# Altium footprint library International Rectifier Footprints.PcbLib: 101 footprints (part 5 of 7)
Each footprint in its own frame and in the unit in brackets; x right, y up, seen from the top. Pads: shape width x height; smd on the part's side, far side on the other; paste and mask are expansions set on the pad; w line width, h text height; cw(c..) or ccw(c..) is an arc to the next point about the centre after c.
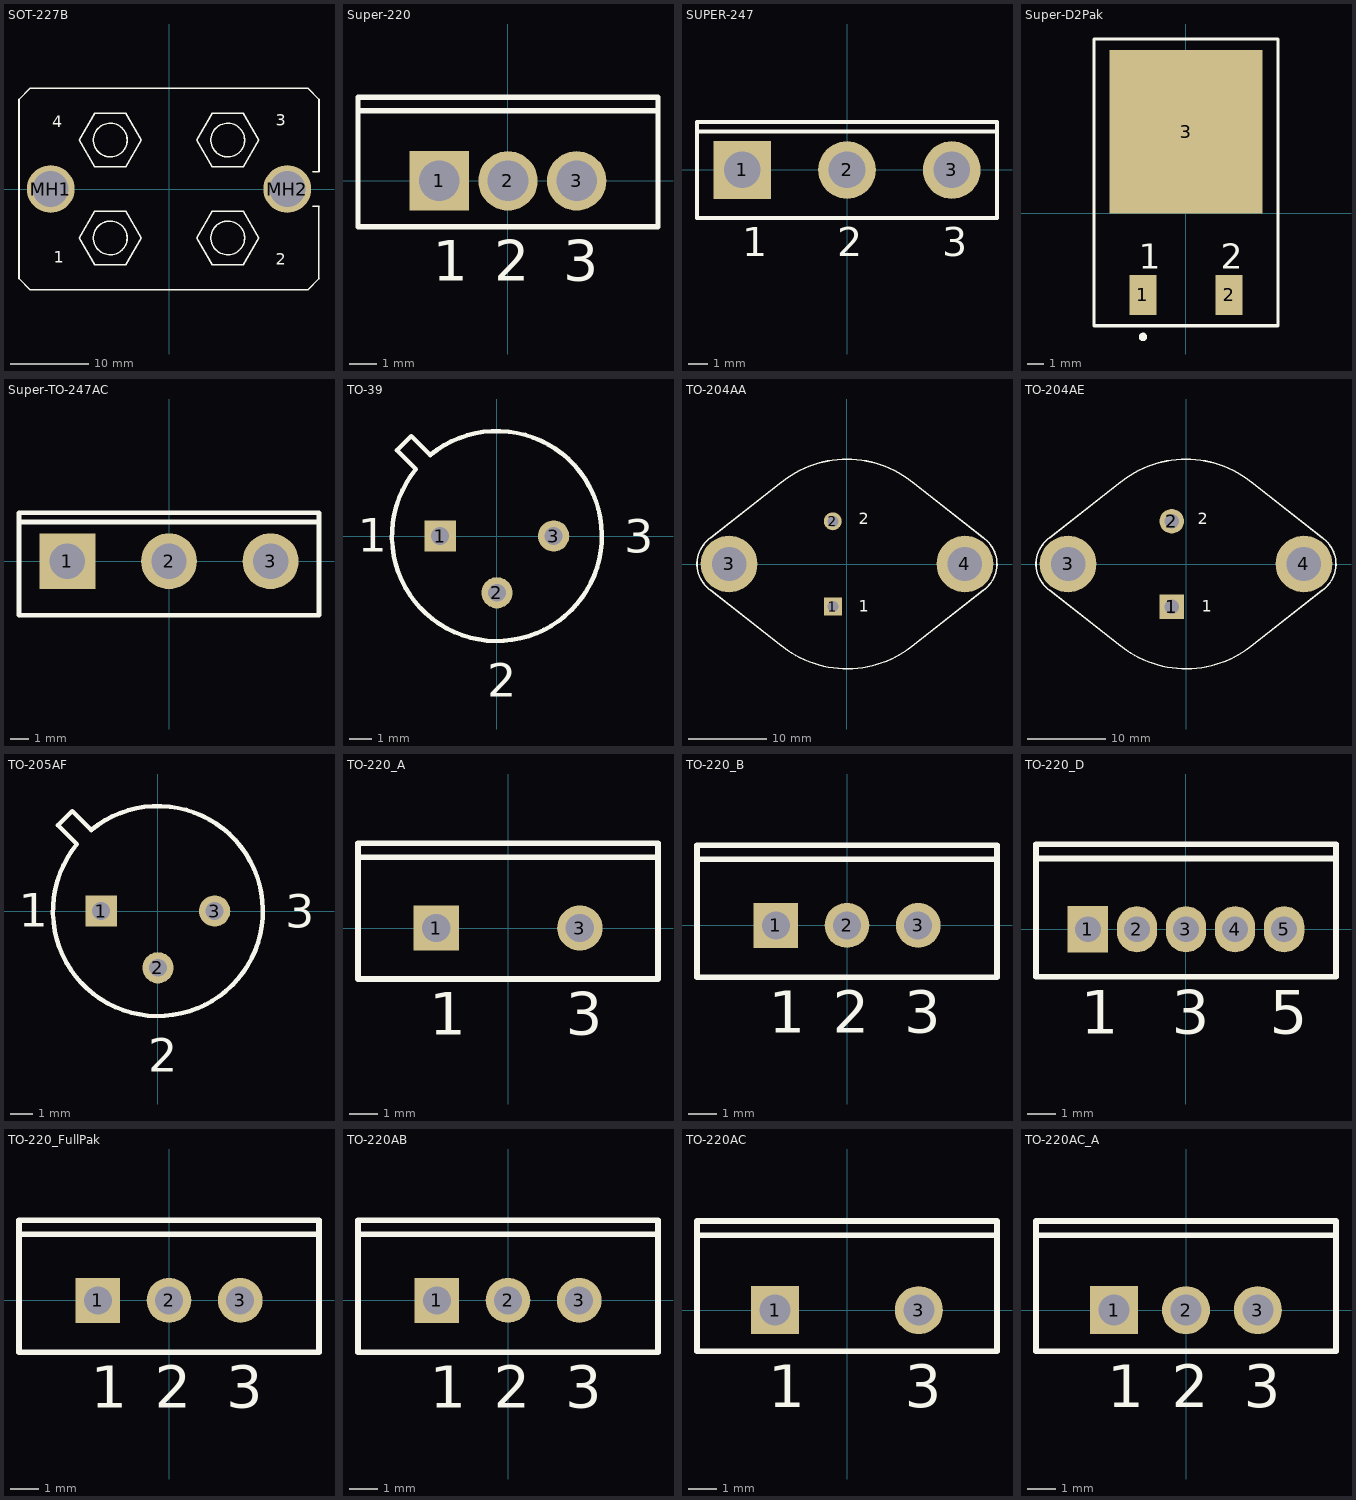
[diagram p4: the footprints below, top view; thin cyan lines are the x and y axes]

## SOT-227B [mm] "SOT-227; 4 Screw Terminals, 2 Mounting Holes"
pads (2):
  round 6.1 hole 4.6: MH1(-15.1,0) MH2(15.1,0)
Top Overlay:
  circle w0.2: c-7.5,6.25 r2.15
  circle w0.2: c7.5,6.25 r2.15
  circle w0.2: c-7.5,-6.25 r2.15
  circle w0.2: c7.5,-6.25 r2.15
  lines w0.2: 18.35,-2.2 19.15,-2.2 ; 18.35,2.2 19.15,2.2 19.15,11.436 17.736,12.85 -17.736,12.85 -19.15,11.436 -19.15,-11.436 -17.736,-12.85 17.736,-12.85 19.15,-11.436 ; 19.123,-11.409 19.123,-2.2 ; -11.45,-6.25 -9.475,-9.671 -5.525,-9.671 -3.55,-6.25 -5.525,-2.829 -9.475,-2.829 -11.45,-6.25 ; -11.45,6.25 -9.475,2.829 -5.525,2.829 -3.55,6.25 -5.525,9.671 -9.475,9.671 -11.45,6.25 ; 3.55,-6.25 5.525,-9.671 9.475,-9.671 11.45,-6.25 9.475,-2.829 5.525,-2.829 3.55,-6.25 ; 3.55,6.25 5.525,2.829 9.475,2.829 11.45,6.25 9.475,9.671 5.525,9.671 3.55,6.25
  text "1" at -14.7,-9.4 h1.5
  text "2" at 13.6,-9.7 h1.5
  text "3" at 13.6,8.1 h1.5
  text "4" at -14.9,7.9 h1.5

## Super-220 [mm] "TO, Thru-Hole, Vertical, Heatsink Mounted; 3 In-Line Leads; Pitch 2.54 mm"
height 19.4
pads (3):
  rect 2.2x2.2 hole 1.5: 1(-2.54,0)
  round 2.2 hole 1.5: 2(0,0) 3(2.54,0)
Top Overlay:
  lines w0.2: -5.55,2.6 5.55,2.6 ; -5.55,-1.7 5.55,-1.7 5.55,3.1 -5.55,3.1 -5.55,-1.7
  text "3" at 2.04,-3.7 h1.5
  text "2" at -0.5,-3.7 h1.5
  text "1" at -2.79,-3.7 h1.5

## SUPER-247 [mm] "SIP; 3 Leads; Body 20.3 x 15.6 x 5 mm (typ); Pitch 5.45 mm"
height 23.9
pads (3):
  rect 3x3 hole 1.9: 1(-5.45,0)
  round 3 hole 1.9: 2(0,0) 3(5.45,0)
Top Overlay:
  lines w0.2: -7.8,2 7.8,2 ; -7.8,-2.5 -7.8,2.5 7.8,2.5 7.8,-2.5 -7.8,-2.5
  text "3" at 4.942,-4.48 h1.5
  text "2" at -0.508,-4.48 h1.5
  text "1" at -5.45,-4.48 h1.5

## Super-D2Pak [mm] "D2-PAK; 3 Leads (1 Cropped); Body 15.2 (inc. leads) x 10.9 mm (LxW max)"
height 4
pads (3):
  rect 1.61x2.37 smd: 1(-2.55,-4.837) 2(2.55,-4.837)
  rect 9.05x9.68 smd: 3(0,4.838)
Top Overlay:
  circle w0.25: c-2.55,-7.322 r0.125
  lines w0.2: -5.45,-6.672 -5.45,10.328 5.45,10.328 5.45,-6.672 -5.45,-6.672
  text "1" at -2.8,-3.277 h1.5
  text "2" at 2.05,-3.277 h1.5

## Super-TO-247AC [mm] "SIP; 3 Leads; Body 20.3 x 15.6 x 5 mm (typ); Pitch 5.45 mm"
height 25.1
pads (3):
  rect 3x3 hole 1.9: 1(-5.45,0)
  round 3 hole 1.9: 2(0,0) 3(5.45,0)
Top Overlay:
  lines w0.254: -8.05,2.1 8.05,2.1 ; -8.05,-2.9 -8.05,2.6 8.05,2.6 8.05,-2.9 -8.05,-2.9

## TO-39 [mm] "Can; 3 Leads; Pin Circle Dia. 5.08 mm; Lead Dia. 0.48 mm (max)"
height 4.55
pads (3):
  rect 1.4x1.4 hole 0.8: 1(-2.54,0)
  round 1.4 hole 0.8: 2(0,-2.54) 3(2.54,0)
Top Overlay:
  lines w0.2: -4.475,3.838 -3.838,4.475 -2.99,3.626 cw(c0,0) -3.626,2.99 -4.475,3.838
  text "3" at 5.712,-0.751 h1.5
  text "2" at -0.433,-7.203 h1.5
  text "1" at -6.219,-0.697 h1.5

## TO-204AA [mm] "Oval Flange Mount with (2) Offset Leads; Pin Spacing 10.92 mm; Lead Dia. 1.07 mm (max)"
height 7.87
pads (4):
  rect 2.3x2.3 hole 1.4: 1(-1.815,-5.46)
  round 2.3 hole 1.4: 2(-1.815,5.46)
  round 7.25 hole 4.4: 3(-15.075,0) 4(15.075,0)
Top Overlay:
  lines w0.2: -17.427,-3.359 -8.299,-10.521 ; -17.427,-3.358 cw(c-15.075,0) -17.427,3.359 -8.299,10.521 ; -8.613,-10.265 ccw(c0,0) 8.298,-10.521 17.427,-3.359 ; -8.613,10.265 cw(c0,0) 8.613,10.265 ; 8.299,10.521 17.427,3.359 ; 17.308,3.439 cw(c15.075,0) 17.427,-3.358
  text "2" at 1.524,5.08 h1.5
  text "1" at 1.524,-6.096 h1.5

## TO-204AE [mm] "Oval Flange Mount with (2) Offset Leads; Pin Spacing 10.92 mm; Lead Dia. 1.57 mm (max)"
height 7.87
pads (4):
  rect 3.15x3.15 hole 1.9: 1(-1.815,-5.46)
  round 3.15 hole 1.9: 2(-1.815,5.46)
  round 7.25 hole 4.4: 3(-15.075,0) 4(15.075,0)
Top Overlay:
  lines w0.2: -17.427,-3.359 -8.299,-10.521 ; -17.427,-3.358 cw(c-15.075,0) -17.427,3.359 -8.299,10.521 ; -8.613,-10.265 ccw(c0,0) 8.298,-10.521 17.427,-3.359 ; -8.613,10.265 cw(c0,0) 8.613,10.265 ; 8.299,10.521 17.427,3.359 ; 17.308,3.439 cw(c15.075,0) 17.427,-3.358
  text "2" at 1.524,5.08 h1.5
  text "1" at 2.032,-6.096 h1.5

## TO-205AF [mm] "Can; 3 Leads; Pin Circle Dia. 5.08 mm; Lead Dia. 0.48 mm (max)"
height 4.55
pads (3):
  rect 1.4x1.4 hole 0.8: 1(-2.54,0)
  round 1.4 hole 0.8: 2(0,-2.54) 3(2.54,0)
Top Overlay:
  lines w0.2: -4.475,3.838 -3.838,4.475 -2.99,3.626 cw(c0,0) -3.626,2.99 -4.475,3.838
  text "3" at 5.712,-0.751 h1.5
  text "2" at -0.433,-7.203 h1.5
  text "1" at -6.219,-0.697 h1.5

## TO-220_A [mm] "TO, Thru-Hole, Vertical, Heatsink Mounted; 3 In-Line Leads (1 Absent); Pitch 2.54 mm"
height 19.3
pads (2):
  rect 1.6x1.6 hole 1: 1(-2.54,0)
  round 1.6 hole 1: 3(2.54,0)
Top Overlay:
  lines w0.2: -5.3,2.5 5.3,2.5 ; -5.3,-1.8 -5.3,3 5.3,3 5.3,-1.8 -5.3,-1.8
  text "1" at -2.79,-3.775 h1.5
  text "3" at 2.04,-3.775 h1.5

## TO-220_B [mm] "TO, Thru-Hole, Vertical, Heatsink Mounted; 3 In-Line Leads; Pitch 2.54 mm"
height 19
pads (3):
  rect 1.6x1.6 hole 1: 1(-2.54,0)
  round 1.6 hole 1: 2(0,0) 3(2.54,0)
Top Overlay:
  lines w0.2: -5.35,2.35 5.35,2.35 ; -5.35,-1.85 -5.35,2.85 5.35,2.85 5.35,-1.85 -5.35,-1.85
  text "3" at 2.04,-3.825 h1.5
  text "1" at -2.79,-3.825 h1.5
  text "2" at -0.5,-3.825 h1.5

## TO-220_D [mm] "TO, Thru-Hole, Vertical, Heatsink Mounted; 5 In-Line Leads; Pitch 1.70 mm"
height 15.1
pads (5):
  rect 1.4x1.6 hole 0.9: 1(-3.4,0)
  oval 1.4x1.6 hole 0.9: 2(-1.7,0) 3(0,0) 4(1.7,0) 5(3.4,0)
Top Overlay:
  lines w0.2: -5.2,2.45 5.2,2.45 ; -5.2,-1.65 5.2,-1.65 5.2,2.95 -5.2,2.95 -5.2,-1.65
  text "1" at -3.65,-3.625 h1.5
  text "3" at -0.5,-3.625 h1.5
  text "5" at 2.9,-3.625 h1.5

## TO-220_FullPak [mm] "TO, Thru-Hole, Vertical, Heatsink Mounted; 3 In-Line Leads; Pitch 2.54 mm"
height 19.3
pads (3):
  rect 1.6x1.6 hole 1: 1(-2.54,0)
  round 1.6 hole 1: 2(0,0) 3(2.54,0)
Top Overlay:
  lines w0.2: -5.35,2.35 5.35,2.35 ; -5.35,-1.85 -5.35,2.85 5.35,2.85 5.35,-1.85 -5.35,-1.85
  text "3" at 2.04,-3.825 h1.5
  text "1" at -2.79,-3.825 h1.5
  text "2" at -0.5,-3.825 h1.5

## TO-220AB [mm] "TO, Thru-Hole, Vertical, Heatsink Mounted; 3 In-Line Leads; Pitch 2.54 mm"
height 19.3
pads (3):
  rect 1.6x1.6 hole 1: 1(-2.54,0)
  round 1.6 hole 1: 2(0,0) 3(2.54,0)
Top Overlay:
  lines w0.2: -5.35,2.35 5.35,2.35 ; -5.35,-1.85 -5.35,2.85 5.35,2.85 5.35,-1.85 -5.35,-1.85
  text "3" at 2.04,-3.825 h1.5
  text "1" at -2.79,-3.825 h1.5
  text "2" at -0.5,-3.825 h1.5

## TO-220AC [mm] "TO, Thru-Hole, Vertical, Heatsink Mounted; 3 In-Line Leads (1 Absent); Pitch 2.54 mm"
height 19.2
pads (2):
  rect 1.7x1.7 hole 1.1: 1(-2.54,0)
  round 1.7 hole 1.1: 3(2.54,0)
Top Overlay:
  lines w0.2: -5.3,2.65 5.3,2.65 ; -5.3,-1.45 5.3,-1.45 5.3,3.15 -5.3,3.15 -5.3,-1.45
  text "1" at -2.79,-3.425 h1.5
  text "3" at 2.04,-3.425 h1.5

## TO-220AC_A [mm] "TO, Thru-Hole, Vertical, Heatsink Mounted; 3 In-Line Leads; Pitch 2.54 mm"
height 19.2
pads (3):
  rect 1.7x1.7 hole 1.1: 1(-2.54,0)
  round 1.7 hole 1.1: 2(0,0) 3(2.54,0)
Top Overlay:
  lines w0.2: -5.3,2.65 5.3,2.65 ; -5.3,-1.45 5.3,-1.45 5.3,3.15 -5.3,3.15 -5.3,-1.45
  text "1" at -2.79,-3.425 h1.5
  text "2" at -0.5,-3.425 h1.5
  text "3" at 2.04,-3.425 h1.5